# Altium schematic symbol library MyLib.SchLib: 3 symbols
Pins are listed as number, name and electrical type; pins without a type are passive.

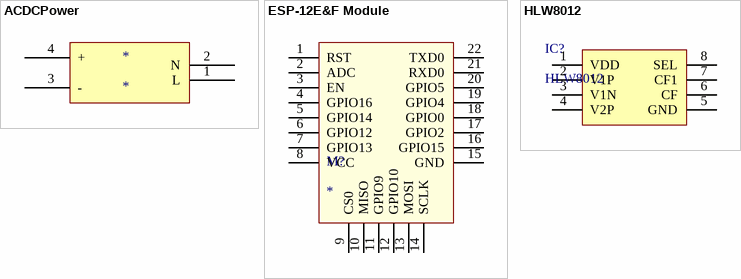
[diagram p0: symbols ACDCPower to HLW8012]

## ACDCPower
designator *
footprint ADDC
pins: 1 L, 2 N, 3 -, 4 +

## ESP-12E&F Module
designator M?
ESP-12E&F Module
footprint ESP-12E&F Module
pins: 1 RST, 2 ADC, 3 EN, 4 GPIO16, 5 GPIO14, 6 GPIO12, 7 GPIO13, 8 VCC, 9 CS0, 10 MISO, 11 GPIO9, 12 GPIO10, 13 MOSI, 14 SCLK, 15 GND, 16 GPIO15, 17 GPIO2, 18 GPIO0, 19 GPIO4, 20 GPIO5, 21 RXD0, 22 TXD0

## HLW8012
designator IC?
BOM名称: 气压传感器; 版权归属: 源创客; 学习资源: www.ooocke.com
footprint SOP8_M (5*6*1.8mm（长宽高）)
pins: 1 VDD, 2 V1P, 3 V1N, 4 V2P, 5 GND, 6 CF, 7 CF1, 8 SEL